# Altium integrated library TI Power Management DC-DC Controller (External Switch).IntLib: 349 symbols (part 19 of 28)
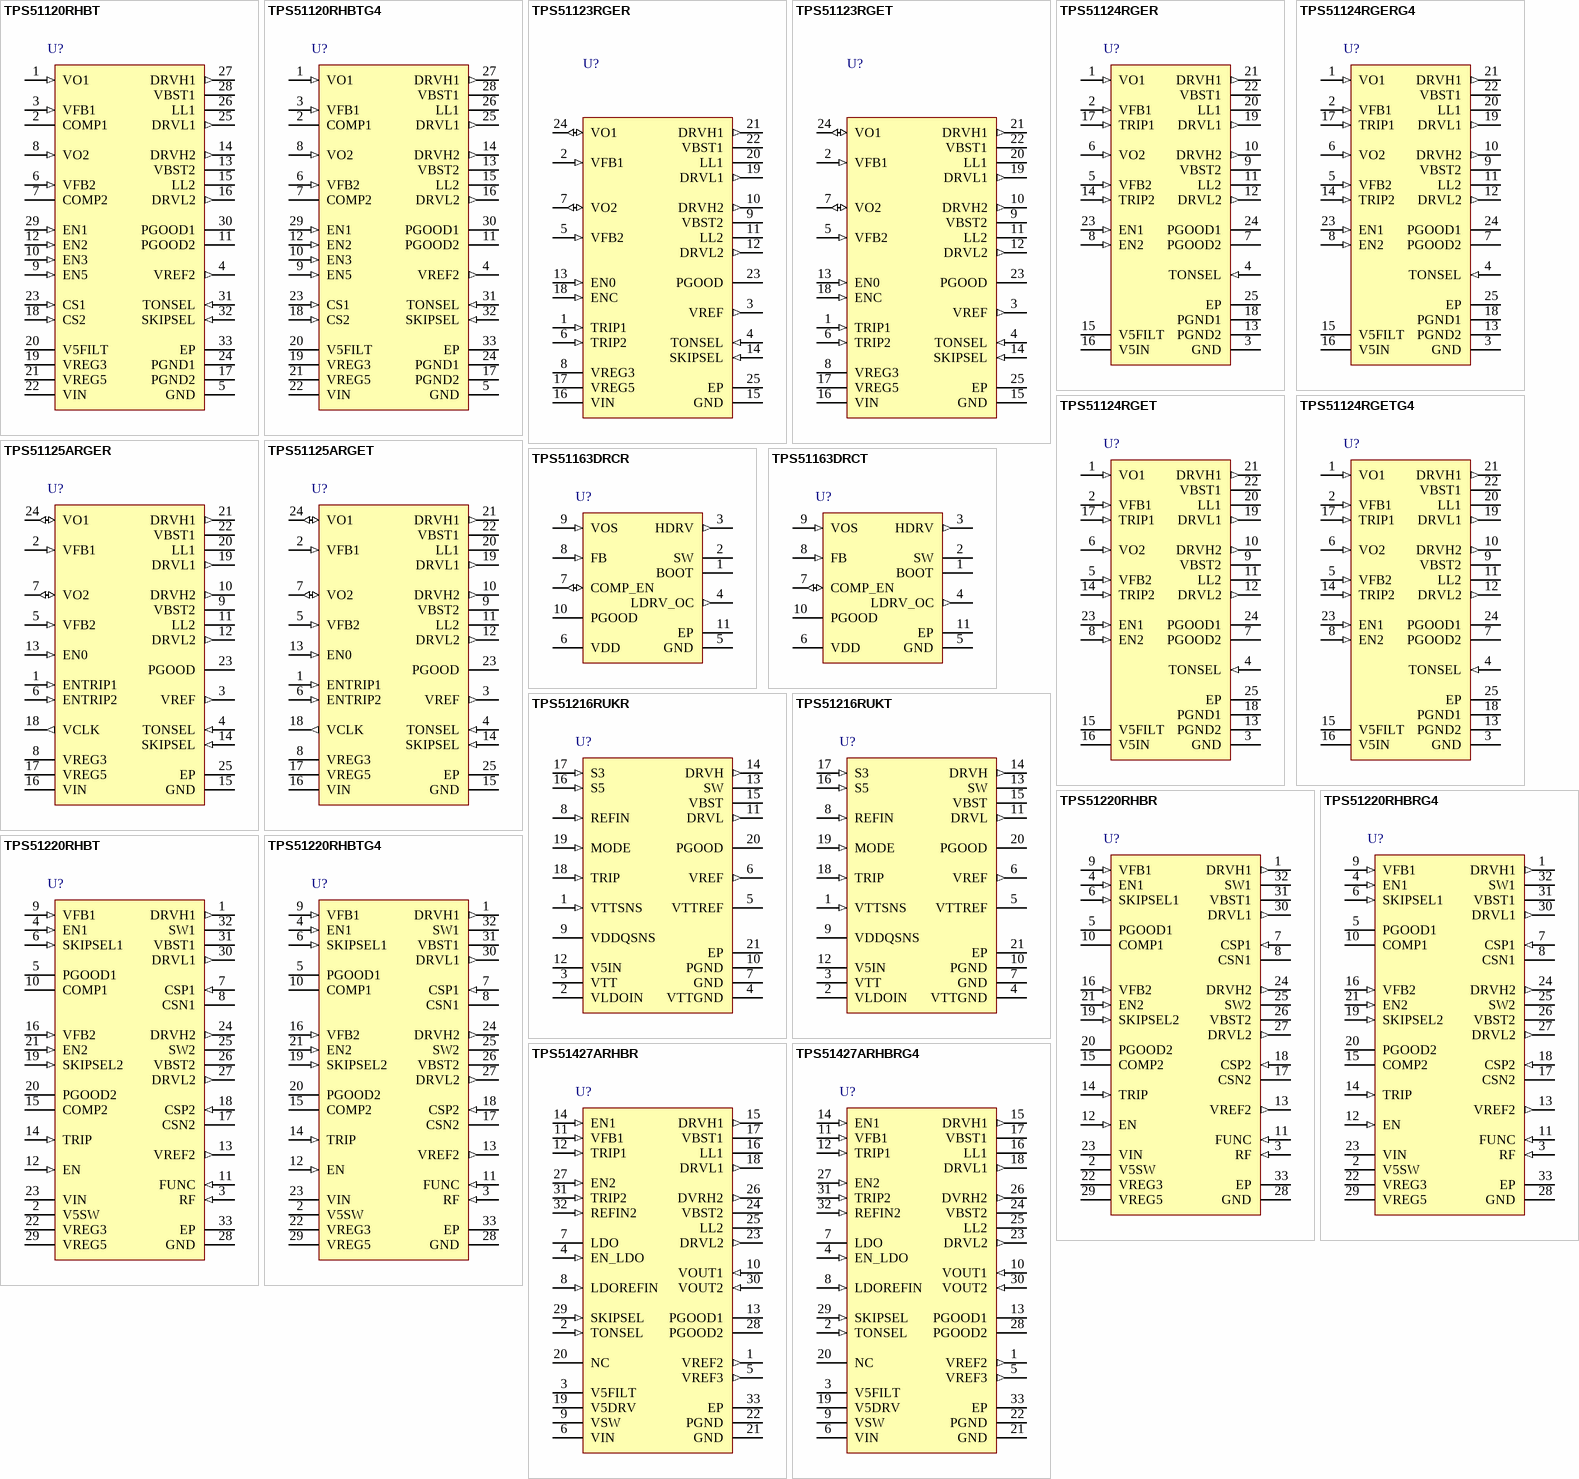
[diagram p32: symbols TPS51120RHBT to TPS51427ARHBRG4]

## TPS51120RHBTG4
designator U?
Dual Current Mode, Synch Step-Down Controller with 100 mA Standby Reg for Notebook System Power, 88 % Duty Cycle, 4.5 to 28 V, -40 to 85 degC, 32-pin QFN (RHB), Green (RoHS & no Sb/Br); Manufacturer: Texas Instruments; PartNumber: TPS51120RHBTG4; Duty Cycle(Max)(%): 88; Iout(Max)(A): 20; Regulated Outputs(#): 2; SubFamily: Multiple-Output Switching Controller; Switching Frequency(Max)(kHz): 580; Synchronous Rectification: TRUE; Topology: Buck, D-CAP Mode"; Vin(Max)(V): 28; Vin(Min)(V): 4.5; Vout(Max)(V): 5.5; Vout(Min)(V): 1.05; DatasheetVersion: SLUS670B; PackageVersion: revD, Jun-2011; PackageReference: RHB32-3450X3450TP; PackageDescription: 32-Pin Plastic Quad Flat No-Lead, 5 x 5 mm Body, 0.5 mm Pitch, 3.45 x 3.45 mm Exposed Pad; Supplier 1: Digi-Key; Supplier Part Number 1: TPS51120RHBTG4-ND; Supplier 2: Farnell; Supplier Part Number 2: 1262374; Supplier 3: Newark; Supplier Part Number 3: 95M4482; Supplier 4: Newark; Supplier Part Number 4: 58K6933; Supplier 5: Mouser; Supplier Part Number 5: 595-TPS51120RHBTG4; Eco-Plan: Green (RoHS & no Sb/Br); Iout2(A): 20; Vout2(Max)(V): 5.5; Vout2(Min)(V): 1.05; Mounting Technology: Surface Mount; Code_JEDEC: MO-220; ComponentLink1Description: Datasheet; ComponentLink1URL: http://www.ti.com/general/docs/lit/getliterature.tsp?genericPartNumber=TPS51120&fileType=pdf; ComponentLink2Description: Package Specification; ComponentLink2URL: http://www.ti.com/litv/pdf/mpqf130c
footprint RHB32-3450X3450TP (QFN, 32-Leads, Body 5x5mm, Pitch 0.5mm, Thermal Pad 3.45x3.45mm, TI Recommended)
pins: 1 VO1 (in) "These terminals serve four functions: on-time adjustment, output discharge, VREG5, VREG3 switchover input and feedback inputs for 5-V, 3.3-V fixed-output option. Connect to positive terminal of respective switch mode power (See Datasheet)", 2 COMP1 "Loop compensation pin (error amplifier output). Connect RC from this pin to GND for proper loop compensation with current mode operation. Tie this pin to V5FILT for D-CAP mode operation.", 3 VFB1 (in) "SMPS feedback input. Connect the feedback resistor divider here for adjustable outputs. Tie these pins to V5FILT or for fixed output option. Refer to Table 2", 4 VREF2 (out) "2-V reference output. Capable of +/-50-uA, +/-2% over 0 - 85degreesC temperature range. Bypass to GND by 1-nF ceramic capacitor. Tie this pin to GND disables both SMPS.", 5 GND (power) "Signal ground pin.", 6 VFB2 (in) "SMPS feedback input. Connect the feedback resistor divider here for adjustable outputs. Tie these pins to V5FILT or for fixed output option. Refer to Table 2", 7 COMP2 "Loop compensation pin (error amplifier output). Connect RC from this pin to GND for proper loop compensation with current mode operation. Tie this pin to V5FILT for D-CAP mode operation.", 8 VO2 (in) "These terminals serve four functions: on-time adjustment, output discharge, VREG5, VREG3 switchover input and feedback inputs for 5-V, 3.3-V fixed-output option. Connect to positive terminal of respective switch mode power (See Datasheet)", 9 EN5 (in) "VREG5, 5-V low dropout linear regulator enable pin. Connect to GND to disable. Float or tie to VBAT to turn on the regulator.", 10 EN3 (in) "VREG3, 3.3-V low dropout linear regulator enable pin. Connect to GND to disable. Float or tie to enabled VREG5 to turn on the regulator.", 11 PGOOD2 (oc) "Power-good window comparator open drain output. Pull up with resistor to V5FILT or appropriate signal voltage. Current capability is 5-mA. PGOOD goes high 1-ms after VFB is within specified limits. Power bad (terminal goes (See Datasheet)", 12 EN2 (in) "Channel 1 and Channel 2 SMPS enable pins. Connect to 5 V to turn on with internal 3-ms soft-start. Slower soft-start is possible by applying an external capacitor from each of these pins to ground to program ramp rate.", 13 VBST2 (power) "Supply Input for High-side MOSFET Driver. Connect capacitor from this pin to respective LL terminal. An internal PN diode is connected between VREG5 to each of these pins. User can add external schottky diode if forward drop (See Datasheet)", 14 DRVH2 (out) "High-side MOSFET gate drive output. Source 3.5 Ohm, sink 1.5 Ohm, LL-node referenced floating driver. Drive voltage corresponds to VBST to LL voltage.", 15 LL2 (power) "High-side MOSFET gate driver return. Also serve as current sense comparator input (-) for RDS(on) sensing, and input voltage monitor for on-time control circuitry", 16 DRVL2 (out) "Rectifying (low-side) MOSFET gate drive output. Source 3.5 Ohm, sink 1.5 Ohm, PGND referenced driver. Drive voltage is VREG5 voltage.", 17 PGND2 (power) "Ground return for rectifying MOSFET gate driver. Connect PGND2, PGND1 and GND strongly together near the source of the rectifying FET or the GND connection of the current sense resistor. Also serve as current sense (See Datasheet)", 18 CS2 (in) "Current sense comparator input (-) for resistor sensing scheme. Or, overcurrent trip setting input for RDS(on) current sense scheme if connected to V5FILT through the threshold setting resistor.", 19 VREG3 (power) "3.3-V, 100-uA low dropout linear regulator output. Bypass to PGND by 10-mF ceramic capacitor. Runs from VIN supply. Shuts off with EN3. Switches over to VO2 when 3.1 V or above is provided.", 20 V5FILT (power) "5-V supply input for the entire control circuit. Should be provided from VREG5 via RC filter.", 21 VREG5 (power) "5-V, 100-mA low dropout linear regulator output. Bypass to PGND by 10-uF ceramic capacitor. Runs from VIN supply. Internally connected to VBST and DRVL. Shuts off with EN5. Switches over to VO1 when 4.8 V or above is (See Datasheet)", 22 VIN (power) "Supply Input for 5-V and 3.3-V linear regulator. Typically connected to VBAT.", 23 CS1 (in) "Current sense comparator input (-) for resistor sensing scheme. Or, overcurrent trip setting input for RDS(on) current sense scheme if connected to V5FILT through the threshold setting resistor.", 24 PGND1 (power) "Ground return for rectifying MOSFET gate driver. Connect PGND2, PGND1 and GND strongly together near the source of the rectifying FET or the GND connection of the current sense resistor. Also serve as current sense (See Datasheet)", 25 DRVL1 (out) "Rectifying (low-side) MOSFET gate drive output. Source 3.5 Ohm, sink 1.5 Ohm, PGND referenced driver. Drive voltage is VREG5 voltage.", 26 LL1 (power) "High-side MOSFET gate driver return. Also serve as current sense comparator input (-) for RDS(on) sensing, and input voltage monitor for on-time control circuitry", 27 DRVH1 (out) "High-side MOSFET gate drive output. Source 3.5 Ohm, sink 1.5 Ohm, LL-node referenced floating driver. Drive voltage corresponds to VBST to LL voltage.", 28 VBST1 (power) "Supply Input for High-side MOSFET Driver. Connect capacitor from this pin to respective LL terminal. An internal PN diode is connected between VREG5 to each of these pins. User can add external schottky diode if forward drop (See Datasheet)", 29 EN1 (in) "Channel 1 and Channel 2 SMPS enable pins. Connect to 5 V to turn on with internal 3-ms soft-start. Slower soft-start is possible by applying an external capacitor from each of these pins to ground to program ramp rate.", 30 PGOOD1 (oc) "Power-good window comparator open drain output. Pull up with resistor to V5FILT or appropriate signal voltage. Current capability is 5-mA. PGOOD goes high 1-ms after VFB is within specified limits. Power bad (terminal goes (See Datasheet)", 31 TONSEL (in) "On-time selection pin. Refer to Table 1 and Table 2.", 32 SKIPSEL (in) "Skip and fault mode selection pin. Refer to Table 2", 33 EP (power) "EXPOSED THERMAL PAD"

## TPS51123RGER
designator U?
Dual-Synchronous, Step-Down Controller with Out-of-Audio Operation, 100 mA LDOs for Notebook Sys. Pwr, 93 % Duty Cycle, 5.5 to 28 V, -40 to 85 degC, 24-pin VQFN (RGE), Green (RoHS & no Sb/Br); Manufacturer: Texas Instruments; PartNumber: TPS51123RGER; Duty Cycle(Max)(%): 93; Iout(Max)(A): 20; Regulated Outputs(#): 2; SubFamily: Multiple-Output Switching Controller; Switching Frequency(Max)(kHz): 460; Synchronous Rectification: TRUE; Topology: Buck, D-CAP Mode"; Vin(Max)(V): 28; Vin(Min)(V): 5.5; DatasheetVersion: SLUS890D; PackageVersion: revG, Jul-2011; PackageReference: RGE24-2450X2450TP; PackageDescription: 24-Pin Plastic Quad Flatpack No-Lead, 4 x 4 mm Body, 0.5 mm Pitch; Supplier 1: Digi-Key; Supplier Part Number 1: TPS51123RGER-ND; Supplier 2: Mouser; Supplier Part Number 2: 595-TPS51123RGER; Eco-Plan: Green (RoHS & no Sb/Br); Iout2(A): 20; Vout(Max)(V): 5.5; Vout(Min)(V): 2; Vout2(Max)(V): 5.5; Vout2(Min)(V): 2; Mounting Technology: Surface Mount; Code_JEDEC: MO-220; ComponentLink1Description: Datasheet; ComponentLink1URL: http://www.ti.com/general/docs/lit/getliterature.tsp?genericPartNumber=TPS51123&fileType=pdf; ComponentLink2Description: Package Specification; ComponentLink2URL: http://www.ti.com/litv/pdf/mpqf124f
footprint RGE24-2450X2450TP (QFN, 24-Leads, Body 4x4mm, Pitch 0.5mm, Thermal Pad 2.45x2.45mm, TI Recommended)
pins: 1 TRIP1 (in) "OCL trip setting pins. Connect resistor from this pin to GND to set threshold for synchronous RDS(on) sense.", 2 VFB1 (in) "SMPS feedback inputs. Connect with feedback resistor divider", 3 VREF (out) "2-V reference voltage output. Connect 220-nF to 1-uF ceramic capacitor to Signal GND near the device.", 4 TONSEL (in) "On-time adjustment pin.365 kHz/460 kHz setting: connect to VREG5   300 kHz/375 kHz setting: connect to VREG3    245 kHz/305 kHz setting: connect to VREF   200 kHz/250 kHz setting: connect to GND", 5 VFB2 (in) "SMPS feedback inputs. Connect with feedback resistor divider", 6 TRIP2 (in) "OCL trip setting pins. Connect resistor from this pin to GND to set threshold for synchronous RDS(on) sense.", 7 VO2 (io) "Output connection to SMPS. These terminals work as fixed voltage inputs and output discharge inputs. VO1 and VO2 also work as 5-V and 3.3-V switch over return power input respectively.", 8 VREG3 (power) "3.3-V power supply output. Connect a 10-uF ceramic capacitor to Power GND near the device. A 1-uF ceramic capacitor is acceptable when not loaded.", 9 VBST2 (power) "Supply input for high-side N-channel MOSFET driver (boost terminal).", 10 DRVH2 (out) "High-side N-channel MOSFET driver outputs. LL referenced drivers.", 11 LL2 (power) "Switch node connections for high-side drivers, current limit and control circuitry.", 12 DRVL2 (out) "Low-side N-channel MOSFET driver outputs. GND referenced drivers.", 13 EN0 (in) "Master enable input. Open : LDOs on, and ready to turn both switcher channels.GND : disable all circuit", 14 SKIPSEL (in) "Selection pin for operation mode:OOA auto skip : Connect to VREG3 or VREG5   PWM only: Connect to VREF  Auto skip: Connect to GND", 15 GND (power) "Ground.", 16 VIN (power) "High voltage power supply input for 5-V/3.3-V LDO.", 17 VREG5 (power) "5-V power supply output. Connect a 33-uF ceramic capacitor to Power GND near the device.", 18 ENC (in) "Channel 1 and Channel 2 enable input. Pull up to the voltage ranging 3.3-V to 5-V to turn on both switcher channels. Short to ground to shutdown them.", 19 DRVL1 (out) "Low-side N-channel MOSFET driver outputs. GND referenced drivers.", 20 LL1 (power) "Switch node connections for high-side drivers, current limit and control circuitry.", 21 DRVH1 (out) "High-side N-channel MOSFET driver outputs. LL referenced drivers.", 22 VBST1 (power) "Supply input for high-side N-channel MOSFET driver (boost terminal).", 23 PGOOD (oc) "Powergood window comparator output for channel 1 and 2. (Logical AND)", 24 VO1 (io) "Output connection to SMPS. These terminals work as fixed voltage inputs and output discharge inputs. VO1 and VO2 also work as 5-V and 3.3-V switch over return power input respectively.", 25 EP (power) "Exposed Thermal Pad"

## TPS51123RGET
designator U?
Dual-Synchronous, Step-Down Controller with Out-of-Audio Operation, 100 mA LDOs for Notebook Sys. Pwr, 93 % Duty Cycle, 5.5 to 28 V, -40 to 85 degC, 24-pin VQFN (RGE), Green (RoHS & no Sb/Br); Manufacturer: Texas Instruments; PartNumber: TPS51123RGET; Duty Cycle(Max)(%): 93; Iout(Max)(A): 20; Regulated Outputs(#): 2; SubFamily: Multiple-Output Switching Controller; Switching Frequency(Max)(kHz): 460; Synchronous Rectification: TRUE; Topology: Buck, D-CAP Mode"; Vin(Max)(V): 28; Vin(Min)(V): 5.5; DatasheetVersion: SLUS890D; PackageVersion: revG, Jul-2011; PackageReference: RGE24-2450X2450TP; PackageDescription: 24-Pin Plastic Quad Flatpack No-Lead, 4 x 4 mm Body, 0.5 mm Pitch; Supplier 1: Digi-Key; Supplier Part Number 1: 296-24069-2-ND; Supplier 2: Digi-Key; Supplier Part Number 2: 296-24069-1-ND; Supplier 3: Digi-Key; Supplier Part Number 3: 296-24069-6-ND; Supplier 4: Farnell; Supplier Part Number 4: 1710816; Supplier 5: Newark; Supplier Part Number 5: 46P3777; Supplier 6: Mouser; Supplier Part Number 6: 595-TPS51123RGET; Eco-Plan: Green (RoHS & no Sb/Br); Iout2(A): 20; Vout(Max)(V): 5.5; Vout(Min)(V): 2; Vout2(Max)(V): 5.5; Vout2(Min)(V): 2; Mounting Technology: Surface Mount; Code_JEDEC: MO-220; ComponentLink1Description: Datasheet; ComponentLink1URL: http://www.ti.com/general/docs/lit/getliterature.tsp?genericPartNumber=TPS51123&fileType=pdf; ComponentLink2Description: Package Specification; ComponentLink2URL: http://www.ti.com/litv/pdf/mpqf124f
footprint RGE24-2450X2450TP (QFN, 24-Leads, Body 4x4mm, Pitch 0.5mm, Thermal Pad 2.45x2.45mm, TI Recommended)
pins: 1 TRIP1 (in) "OCL trip setting pins. Connect resistor from this pin to GND to set threshold for synchronous RDS(on) sense.", 2 VFB1 (in) "SMPS feedback inputs. Connect with feedback resistor divider", 3 VREF (out) "2-V reference voltage output. Connect 220-nF to 1-uF ceramic capacitor to Signal GND near the device.", 4 TONSEL (in) "On-time adjustment pin.365 kHz/460 kHz setting: connect to VREG5   300 kHz/375 kHz setting: connect to VREG3    245 kHz/305 kHz setting: connect to VREF   200 kHz/250 kHz setting: connect to GND", 5 VFB2 (in) "SMPS feedback inputs. Connect with feedback resistor divider", 6 TRIP2 (in) "OCL trip setting pins. Connect resistor from this pin to GND to set threshold for synchronous RDS(on) sense.", 7 VO2 (io) "Output connection to SMPS. These terminals work as fixed voltage inputs and output discharge inputs. VO1 and VO2 also work as 5-V and 3.3-V switch over return power input respectively.", 8 VREG3 (power) "3.3-V power supply output. Connect a 10-uF ceramic capacitor to Power GND near the device. A 1-uF ceramic capacitor is acceptable when not loaded.", 9 VBST2 (power) "Supply input for high-side N-channel MOSFET driver (boost terminal).", 10 DRVH2 (out) "High-side N-channel MOSFET driver outputs. LL referenced drivers.", 11 LL2 (power) "Switch node connections for high-side drivers, current limit and control circuitry.", 12 DRVL2 (out) "Low-side N-channel MOSFET driver outputs. GND referenced drivers.", 13 EN0 (in) "Master enable input. Open : LDOs on, and ready to turn both switcher channels.GND : disable all circuit", 14 SKIPSEL (in) "Selection pin for operation mode:OOA auto skip : Connect to VREG3 or VREG5   PWM only: Connect to VREF  Auto skip: Connect to GND", 15 GND (power) "Ground.", 16 VIN (power) "High voltage power supply input for 5-V/3.3-V LDO.", 17 VREG5 (power) "5-V power supply output. Connect a 33-uF ceramic capacitor to Power GND near the device.", 18 ENC (in) "Channel 1 and Channel 2 enable input. Pull up to the voltage ranging 3.3-V to 5-V to turn on both switcher channels. Short to ground to shutdown them.", 19 DRVL1 (out) "Low-side N-channel MOSFET driver outputs. GND referenced drivers.", 20 LL1 (power) "Switch node connections for high-side drivers, current limit and control circuitry.", 21 DRVH1 (out) "High-side N-channel MOSFET driver outputs. LL referenced drivers.", 22 VBST1 (power) "Supply input for high-side N-channel MOSFET driver (boost terminal).", 23 PGOOD (oc) "Powergood window comparator output for channel 1 and 2. (Logical AND)", 24 VO1 (io) "Output connection to SMPS. These terminals work as fixed voltage inputs and output discharge inputs. VO1 and VO2 also work as 5-V and 3.3-V switch over return power input respectively.", 25 EP (power) "Exposed Thermal Pad"

## TPS51124RGER
designator U?
Dual, Synchronous Step Down Controller for Low Voltage System Power, 88 % Duty Cycle, 3 to 28 V, -40 to 85 degC, 24-pin VQFN (RGE), Green (RoHS & no Sb/Br); Manufacturer: Texas Instruments; PartNumber: TPS51124RGER; Duty Cycle(Max)(%): 88; Iout(Max)(A): 15; Iout2(A): 20; Regulated Outputs(#): 2; SubFamily: Multiple-Output Switching Controller; Switching Frequency(Max)(kHz): 420; Synchronous Rectification: TRUE; Topology: Buck, D-CAP Mode"; Vin(Max)(V): 28; Vin(Min)(V): 3; Vout(Max)(V): 5.5; Vout(Min)(V): 0.76; DatasheetVersion: SLVS616B; PackageVersion: revG, Jul-2011; PackageReference: RGE24-2450X2450TP; PackageDescription: 24-Pin Plastic Quad Flatpack No-Lead, 4 x 4 mm Body, 0.5 mm Pitch; Supplier 1: Digi-Key; Supplier Part Number 1: 296-26976-2-ND; Supplier 2: Digi-Key; Supplier Part Number 2: 296-26976-1-ND; Supplier 3: Digi-Key; Supplier Part Number 3: 296-26976-6-ND; Supplier 4: Newark; Supplier Part Number 4: 70K5731; Supplier 5: Mouser; Supplier Part Number 5: 595-TPS51124RGER; Eco-Plan: Green (RoHS & no Sb/Br); Vout2(Max)(V): 5.5; Vout2(Min)(V): 0.76; Mounting Technology: Surface Mount; Code_JEDEC: MO-220; ComponentLink1Description: Datasheet; ComponentLink1URL: http://www.ti.com/general/docs/lit/getliterature.tsp?genericPartNumber=TPS51124&fileType=pdf; ComponentLink2Description: Package Specification; ComponentLink2URL: http://www.ti.com/litv/pdf/mpqf124f
footprint RGE24-2450X2450TP (QFN, 24-Leads, Body 4x4mm, Pitch 0.5mm, Thermal Pad 2.45x2.45mm, TI Recommended)
pins: 1 VO1 (in) "Output connections to SMPS. This terminal serve two functions: On-time adjustment and output discharge.", 2 VFB1 (in) "SMPS voltage feedback input. Connect with feedback resistor divider.", 3 GND (power) "Signal ground pin", 4 TONSEL (in) "On-time selection pin.", 5 VFB2 (in) "SMPS voltage feedback input. Connect with feedback resistor divider.", 6 VO2 (in) "Output connections to SMPS. This terminal serve two functions: On-time adjustment and output  discharge.", 7 PGOOD2 (oc) "Power Good window comparator open drain output for channel 2. Pull up with a resistor to 5 V, or appropriate signal voltage. Current capability is 5 mA. PGOOD goes high 0.5 ms after VFB comes within specified limits. Power (See Datasheet)", 8 EN2 (in) "Channel 2 enable pin. Connect to 5 V or 3.3 V to turn on SMPS", 9 VBST2 (power) "Supply input for synchronous high-side MOSFET driver (Boost Terminal). Connect capacitor from this pin to respective LL terminals. An internal PN diode is connected between V5IN to each of these pins. User can add external (See Datasheet)", 10 DRVH2 (out) "Synchronous high-side MOSFET driver output. LL node referenced floating drivers. The gate drive voltage is defined by the voltage across VBST to LL node flying capacitor.", 11 LL2 (power) "Switch node connections for high-side drivers return. Also serve as input to current comparators and input voltage monitor for on-time control circuitry.", 12 DRVL2 (out) "Synchronous low-side MOSFET driver output. PGND referenced drivers. The gate drive voltage is defined by V5IN voltage.", 13 PGND2 (power) "Ground returns for DRVL1 and DRVL2. Also serve as input of current comparators. Connect PGND1, PGND2, and GND strongly together near the IC. Output discharge current flows through this pin, also.", 14 TRIP2 (in) "Over-current trip point set input. Connect resistor from this pin to GND to set threshold for synchronous low-side RDS(on) sense. Voltage across this pin and GND is compared to voltage across PGND and LL at over-current (See Datasheet)", 15 V5FILT (power) "5-V power supply input for the entire control circuit except the MOSFET drivers. Connect RC low-pass filter from V5IN to V5FILT.", 16 V5IN (power) "5-V power supply input for FET gate drivers. Internally connected to VBSTx by PN diodes.", 17 TRIP1 (in) "Over-current trip point set input. Connect resistor from this pin to GND to set threshold for synchronous low-side RDS(on) sense. Voltage across this pin and GND is compared to voltage across PGND and LL at over-current (See Datasheet)", 18 PGND1 (power) "Ground returns for DRVL1 and DRVL2. Also serve as input of current comparators. Connect PGND1, PGND2, and GND strongly together near the IC. Output discharge current flows through this pin, also.", 19 DRVL1 (out) "Synchronous low-side MOSFET driver output. PGND referenced drivers. The gate drive voltage is defined by V5IN voltage.", 20 LL1 (power) "Switch node connections for high-side drivers return. Also serve as input to current comparators and input voltage monitor for on-time control circuitry.", 21 DRVH1 (out) "Synchronous high-side MOSFET driver output. LL node referenced floating drivers. The gate drive voltage is defined by the voltage across VBST to LL node flying capacitor.", 22 VBST1 (power) "Supply input for synchronous high-side MOSFET driver (Boost Terminal). Connect capacitor from this pin to respective LL terminals. An internal PN diode is connected between V5IN to each of these pins. User can add external (See Datasheet)", 23 EN1 (in) "Channel 1 enable pin. Connect to 5 V or 3.3 V to turn on SMPS", 24 PGOOD1 (oc) "Power Good window comparator open drain output for channel 1. Pull up with a resistor to 5 V, or appropriate signal voltage. Current capability is 5 mA. PGOOD goes high 0.5 ms after VFB comes within specified limits. Power (See Datasheet)", 25 EP "Exposed Thermal Pad."

## TPS51124RGERG4
designator U?
Dual, Synchronous Step Down Controller for Low Voltage System Power, 88 % Duty Cycle, 3 to 28 V, -40 to 85 degC, 24-pin VQFN (RGE), Green (RoHS & no Sb/Br); Manufacturer: Texas Instruments; PartNumber: TPS51124RGERG4; Duty Cycle(Max)(%): 88; Iout(Max)(A): 15; Iout2(A): 20; Regulated Outputs(#): 2; SubFamily: Multiple-Output Switching Controller; Switching Frequency(Max)(kHz): 420; Synchronous Rectification: TRUE; Topology: Buck, D-CAP Mode"; Vin(Max)(V): 28; Vin(Min)(V): 3; Vout(Max)(V): 5.5; Vout(Min)(V): 0.76; DatasheetVersion: SLVS616B; PackageVersion: revG, Jul-2011; PackageReference: RGE24-2450X2450TP; PackageDescription: 24-Pin Plastic Quad Flatpack No-Lead, 4 x 4 mm Body, 0.5 mm Pitch; Supplier 1: Digi-Key; Supplier Part Number 1: TPS51124RGERG4-ND; Supplier 2: Newark; Supplier Part Number 2: 73K9598; Supplier 3: Mouser; Supplier Part Number 3: 595-TPS51124RGERG4; Eco-Plan: Green (RoHS & no Sb/Br); Vout2(Max)(V): 5.5; Vout2(Min)(V): 0.76; Mounting Technology: Surface Mount; Code_JEDEC: MO-220; ComponentLink1Description: Datasheet; ComponentLink1URL: http://www.ti.com/general/docs/lit/getliterature.tsp?genericPartNumber=TPS51124&fileType=pdf; ComponentLink2Description: Package Specification; ComponentLink2URL: http://www.ti.com/litv/pdf/mpqf124f
footprint RGE24-2450X2450TP (QFN, 24-Leads, Body 4x4mm, Pitch 0.5mm, Thermal Pad 2.45x2.45mm, TI Recommended)
pins: 1 VO1 (in) "Output connections to SMPS. This terminal serve two functions: On-time adjustment and output discharge.", 2 VFB1 (in) "SMPS voltage feedback input. Connect with feedback resistor divider.", 3 GND (power) "Signal ground pin", 4 TONSEL (in) "On-time selection pin.", 5 VFB2 (in) "SMPS voltage feedback input. Connect with feedback resistor divider.", 6 VO2 (in) "Output connections to SMPS. This terminal serve two functions: On-time adjustment and output  discharge.", 7 PGOOD2 (oc) "Power Good window comparator open drain output for channel 2. Pull up with a resistor to 5 V, or appropriate signal voltage. Current capability is 5 mA. PGOOD goes high 0.5 ms after VFB comes within specified limits. Power (See Datasheet)", 8 EN2 (in) "Channel 2 enable pin. Connect to 5 V or 3.3 V to turn on SMPS", 9 VBST2 (power) "Supply input for synchronous high-side MOSFET driver (Boost Terminal). Connect capacitor from this pin to respective LL terminals. An internal PN diode is connected between V5IN to each of these pins. User can add external (See Datasheet)", 10 DRVH2 (out) "Synchronous high-side MOSFET driver output. LL node referenced floating drivers. The gate drive voltage is defined by the voltage across VBST to LL node flying capacitor.", 11 LL2 (power) "Switch node connections for high-side drivers return. Also serve as input to current comparators and input voltage monitor for on-time control circuitry.", 12 DRVL2 (out) "Synchronous low-side MOSFET driver output. PGND referenced drivers. The gate drive voltage is defined by V5IN voltage.", 13 PGND2 (power) "Ground returns for DRVL1 and DRVL2. Also serve as input of current comparators. Connect PGND1, PGND2, and GND strongly together near the IC. Output discharge current flows through this pin, also.", 14 TRIP2 (in) "Over-current trip point set input. Connect resistor from this pin to GND to set threshold for synchronous low-side RDS(on) sense. Voltage across this pin and GND is compared to voltage across PGND and LL at over-current (See Datasheet)", 15 V5FILT (power) "5-V power supply input for the entire control circuit except the MOSFET drivers. Connect RC low-pass filter from V5IN to V5FILT.", 16 V5IN (power) "5-V power supply input for FET gate drivers. Internally connected to VBSTx by PN diodes.", 17 TRIP1 (in) "Over-current trip point set input. Connect resistor from this pin to GND to set threshold for synchronous low-side RDS(on) sense. Voltage across this pin and GND is compared to voltage across PGND and LL at over-current (See Datasheet)", 18 PGND1 (power) "Ground returns for DRVL1 and DRVL2. Also serve as input of current comparators. Connect PGND1, PGND2, and GND strongly together near the IC. Output discharge current flows through this pin, also.", 19 DRVL1 (out) "Synchronous low-side MOSFET driver output. PGND referenced drivers. The gate drive voltage is defined by V5IN voltage.", 20 LL1 (power) "Switch node connections for high-side drivers return. Also serve as input to current comparators and input voltage monitor for on-time control circuitry.", 21 DRVH1 (out) "Synchronous high-side MOSFET driver output. LL node referenced floating drivers. The gate drive voltage is defined by the voltage across VBST to LL node flying capacitor.", 22 VBST1 (power) "Supply input for synchronous high-side MOSFET driver (Boost Terminal). Connect capacitor from this pin to respective LL terminals. An internal PN diode is connected between V5IN to each of these pins. User can add external (See Datasheet)", 23 EN1 (in) "Channel 1 enable pin. Connect to 5 V or 3.3 V to turn on SMPS", 24 PGOOD1 (oc) "Power Good window comparator open drain output for channel 1. Pull up with a resistor to 5 V, or appropriate signal voltage. Current capability is 5 mA. PGOOD goes high 0.5 ms after VFB comes within specified limits. Power (See Datasheet)", 25 EP "Exposed Thermal Pad."

## TPS51124RGET
designator U?
Dual, Synchronous Step Down Controller for Low Voltage System Power, 88 % Duty Cycle, 3 to 28 V, -40 to 85 degC, 24-pin VQFN (RGE), Green (RoHS & no Sb/Br); Manufacturer: Texas Instruments; PartNumber: TPS51124RGET; Duty Cycle(Max)(%): 88; Iout(Max)(A): 15; Iout2(A): 20; Regulated Outputs(#): 2; SubFamily: Multiple-Output Switching Controller; Switching Frequency(Max)(kHz): 420; Synchronous Rectification: TRUE; Topology: Buck, D-CAP Mode"; Vin(Max)(V): 28; Vin(Min)(V): 3; Vout(Max)(V): 5.5; Vout(Min)(V): 0.76; DatasheetVersion: SLVS616B; PackageVersion: revG, Jul-2011; PackageReference: RGE24-2450X2450TP; PackageDescription: 24-Pin Plastic Quad Flatpack No-Lead, 4 x 4 mm Body, 0.5 mm Pitch; Supplier 1: Digi-Key; Supplier Part Number 1: 296-19295-2-ND; Supplier 2: Digi-Key; Supplier Part Number 2: 296-19295-1-ND; Supplier 3: Digi-Key; Supplier Part Number 3: 296-19295-6-ND; Supplier 4: Farnell; Supplier Part Number 4: 1471233; Supplier 5: Newark; Supplier Part Number 5: 70K5732; Supplier 6: Mouser; Supplier Part Number 6: 595-TPS51124RGET; Eco-Plan: Green (RoHS & no Sb/Br); Vout2(Max)(V): 5.5; Vout2(Min)(V): 0.76; Mounting Technology: Surface Mount; Code_JEDEC: MO-220; ComponentLink1Description: Datasheet; ComponentLink1URL: http://www.ti.com/general/docs/lit/getliterature.tsp?genericPartNumber=TPS51124&fileType=pdf; ComponentLink2Description: Package Specification; ComponentLink2URL: http://www.ti.com/litv/pdf/mpqf124f
footprint RGE24-2450X2450TP (QFN, 24-Leads, Body 4x4mm, Pitch 0.5mm, Thermal Pad 2.45x2.45mm, TI Recommended)
pins: 1 VO1 (in) "Output connections to SMPS. This terminal serve two functions: On-time adjustment and output discharge.", 2 VFB1 (in) "SMPS voltage feedback input. Connect with feedback resistor divider.", 3 GND (power) "Signal ground pin", 4 TONSEL (in) "On-time selection pin.", 5 VFB2 (in) "SMPS voltage feedback input. Connect with feedback resistor divider.", 6 VO2 (in) "Output connections to SMPS. This terminal serve two functions: On-time adjustment and output  discharge.", 7 PGOOD2 (oc) "Power Good window comparator open drain output for channel 2. Pull up with a resistor to 5 V, or appropriate signal voltage. Current capability is 5 mA. PGOOD goes high 0.5 ms after VFB comes within specified limits. Power (See Datasheet)", 8 EN2 (in) "Channel 2 enable pin. Connect to 5 V or 3.3 V to turn on SMPS", 9 VBST2 (power) "Supply input for synchronous high-side MOSFET driver (Boost Terminal). Connect capacitor from this pin to respective LL terminals. An internal PN diode is connected between V5IN to each of these pins. User can add external (See Datasheet)", 10 DRVH2 (out) "Synchronous high-side MOSFET driver output. LL node referenced floating drivers. The gate drive voltage is defined by the voltage across VBST to LL node flying capacitor.", 11 LL2 (power) "Switch node connections for high-side drivers return. Also serve as input to current comparators and input voltage monitor for on-time control circuitry.", 12 DRVL2 (out) "Synchronous low-side MOSFET driver output. PGND referenced drivers. The gate drive voltage is defined by V5IN voltage.", 13 PGND2 (power) "Ground returns for DRVL1 and DRVL2. Also serve as input of current comparators. Connect PGND1, PGND2, and GND strongly together near the IC. Output discharge current flows through this pin, also.", 14 TRIP2 (in) "Over-current trip point set input. Connect resistor from this pin to GND to set threshold for synchronous low-side RDS(on) sense. Voltage across this pin and GND is compared to voltage across PGND and LL at over-current (See Datasheet)", 15 V5FILT (power) "5-V power supply input for the entire control circuit except the MOSFET drivers. Connect RC low-pass filter from V5IN to V5FILT.", 16 V5IN (power) "5-V power supply input for FET gate drivers. Internally connected to VBSTx by PN diodes.", 17 TRIP1 (in) "Over-current trip point set input. Connect resistor from this pin to GND to set threshold for synchronous low-side RDS(on) sense. Voltage across this pin and GND is compared to voltage across PGND and LL at over-current (See Datasheet)", 18 PGND1 (power) "Ground returns for DRVL1 and DRVL2. Also serve as input of current comparators. Connect PGND1, PGND2, and GND strongly together near the IC. Output discharge current flows through this pin, also.", 19 DRVL1 (out) "Synchronous low-side MOSFET driver output. PGND referenced drivers. The gate drive voltage is defined by V5IN voltage.", 20 LL1 (power) "Switch node connections for high-side drivers return. Also serve as input to current comparators and input voltage monitor for on-time control circuitry.", 21 DRVH1 (out) "Synchronous high-side MOSFET driver output. LL node referenced floating drivers. The gate drive voltage is defined by the voltage across VBST to LL node flying capacitor.", 22 VBST1 (power) "Supply input for synchronous high-side MOSFET driver (Boost Terminal). Connect capacitor from this pin to respective LL terminals. An internal PN diode is connected between V5IN to each of these pins. User can add external (See Datasheet)", 23 EN1 (in) "Channel 1 enable pin. Connect to 5 V or 3.3 V to turn on SMPS", 24 PGOOD1 (oc) "Power Good window comparator open drain output for channel 1. Pull up with a resistor to 5 V, or appropriate signal voltage. Current capability is 5 mA. PGOOD goes high 0.5 ms after VFB comes within specified limits. Power (See Datasheet)", 25 EP "Exposed Thermal Pad."

## TPS51124RGETG4
designator U?
Dual, Synchronous Step Down Controller for Low Voltage System Power, 88 % Duty Cycle, 3 to 28 V, -40 to 85 degC, 24-pin VQFN (RGE), Green (RoHS & no Sb/Br); Manufacturer: Texas Instruments; PartNumber: TPS51124RGETG4; Duty Cycle(Max)(%): 88; Iout(Max)(A): 15; Iout2(A): 20; Regulated Outputs(#): 2; SubFamily: Multiple-Output Switching Controller; Switching Frequency(Max)(kHz): 420; Synchronous Rectification: TRUE; Topology: Buck, D-CAP Mode"; Vin(Max)(V): 28; Vin(Min)(V): 3; Vout(Max)(V): 5.5; Vout(Min)(V): 0.76; DatasheetVersion: SLVS616B; PackageVersion: revG, Jul-2011; PackageReference: RGE24-2450X2450TP; PackageDescription: 24-Pin Plastic Quad Flatpack No-Lead, 4 x 4 mm Body, 0.5 mm Pitch; Supplier 1: Digi-Key; Supplier Part Number 1: TPS51124RGETG4-ND; Supplier 2: Farnell; Supplier Part Number 2: 1262372; Supplier 3: Newark; Supplier Part Number 3: 73K9599; Supplier 4: Mouser; Supplier Part Number 4: 595-TPS51124RGETG4; Eco-Plan: Green (RoHS & no Sb/Br); Vout2(Max)(V): 5.5; Vout2(Min)(V): 0.76; Mounting Technology: Surface Mount; Code_JEDEC: MO-220; ComponentLink1Description: Datasheet; ComponentLink1URL: http://www.ti.com/general/docs/lit/getliterature.tsp?genericPartNumber=TPS51124&fileType=pdf; ComponentLink2Description: Package Specification; ComponentLink2URL: http://www.ti.com/litv/pdf/mpqf124f
footprint RGE24-2450X2450TP (QFN, 24-Leads, Body 4x4mm, Pitch 0.5mm, Thermal Pad 2.45x2.45mm, TI Recommended)
pins: 1 VO1 (in) "Output connections to SMPS. This terminal serve two functions: On-time adjustment and output discharge.", 2 VFB1 (in) "SMPS voltage feedback input. Connect with feedback resistor divider.", 3 GND (power) "Signal ground pin", 4 TONSEL (in) "On-time selection pin.", 5 VFB2 (in) "SMPS voltage feedback input. Connect with feedback resistor divider.", 6 VO2 (in) "Output connections to SMPS. This terminal serve two functions: On-time adjustment and output  discharge.", 7 PGOOD2 (oc) "Power Good window comparator open drain output for channel 2. Pull up with a resistor to 5 V, or appropriate signal voltage. Current capability is 5 mA. PGOOD goes high 0.5 ms after VFB comes within specified limits. Power (See Datasheet)", 8 EN2 (in) "Channel 2 enable pin. Connect to 5 V or 3.3 V to turn on SMPS", 9 VBST2 (power) "Supply input for synchronous high-side MOSFET driver (Boost Terminal). Connect capacitor from this pin to respective LL terminals. An internal PN diode is connected between V5IN to each of these pins. User can add external (See Datasheet)", 10 DRVH2 (out) "Synchronous high-side MOSFET driver output. LL node referenced floating drivers. The gate drive voltage is defined by the voltage across VBST to LL node flying capacitor.", 11 LL2 (power) "Switch node connections for high-side drivers return. Also serve as input to current comparators and input voltage monitor for on-time control circuitry.", 12 DRVL2 (out) "Synchronous low-side MOSFET driver output. PGND referenced drivers. The gate drive voltage is defined by V5IN voltage.", 13 PGND2 (power) "Ground returns for DRVL1 and DRVL2. Also serve as input of current comparators. Connect PGND1, PGND2, and GND strongly together near the IC. Output discharge current flows through this pin, also.", 14 TRIP2 (in) "Over-current trip point set input. Connect resistor from this pin to GND to set threshold for synchronous low-side RDS(on) sense. Voltage across this pin and GND is compared to voltage across PGND and LL at over-current (See Datasheet)", 15 V5FILT (power) "5-V power supply input for the entire control circuit except the MOSFET drivers. Connect RC low-pass filter from V5IN to V5FILT.", 16 V5IN (power) "5-V power supply input for FET gate drivers. Internally connected to VBSTx by PN diodes.", 17 TRIP1 (in) "Over-current trip point set input. Connect resistor from this pin to GND to set threshold for synchronous low-side RDS(on) sense. Voltage across this pin and GND is compared to voltage across PGND and LL at over-current (See Datasheet)", 18 PGND1 (power) "Ground returns for DRVL1 and DRVL2. Also serve as input of current comparators. Connect PGND1, PGND2, and GND strongly together near the IC. Output discharge current flows through this pin, also.", 19 DRVL1 (out) "Synchronous low-side MOSFET driver output. PGND referenced drivers. The gate drive voltage is defined by V5IN voltage.", 20 LL1 (power) "Switch node connections for high-side drivers return. Also serve as input to current comparators and input voltage monitor for on-time control circuitry.", 21 DRVH1 (out) "Synchronous high-side MOSFET driver output. LL node referenced floating drivers. The gate drive voltage is defined by the voltage across VBST to LL node flying capacitor.", 22 VBST1 (power) "Supply input for synchronous high-side MOSFET driver (Boost Terminal). Connect capacitor from this pin to respective LL terminals. An internal PN diode is connected between V5IN to each of these pins. User can add external (See Datasheet)", 23 EN1 (in) "Channel 1 enable pin. Connect to 5 V or 3.3 V to turn on SMPS", 24 PGOOD1 (oc) "Power Good window comparator open drain output for channel 1. Pull up with a resistor to 5 V, or appropriate signal voltage. Current capability is 5 mA. PGOOD goes high 0.5 ms after VFB comes within specified limits. Power (See Datasheet)", 25 EP "Exposed Thermal Pad."

## TPS51125ARGER
designator U?
Dual-Synchronous, Step-Down Controller with Out-of-Audio Operation and 100-mA LDOs, 93 % Duty Cycle, 5.5 to 28 V, -40 to 85 degC, 24-pin VQFN (RGE), Green (RoHS & no Sb/Br); Manufacturer: Texas Instruments; PartNumber: TPS51125ARGER; Duty Cycle(Max)(%): 93; Iout(Max)(A): 20; Regulated Outputs(#): 2; SubFamily: Multiple-Output Switching Controller; Switching Frequency(Max)(kHz): 460; Synchronous Rectification: TRUE; Topology: Buck, D-CAP Mode"; Vin(Max)(V): 28; Vin(Min)(V): 5.5; DatasheetVersion: SLUS976F; PackageVersion: revG, Jul-2011; PackageReference: RGE24-2450X2450TP; PackageDescription: 24-Pin Plastic Quad Flatpack No-Lead, 4 x 4 mm Body, 0.5 mm Pitch; Supplier 1: Digi-Key; Supplier Part Number 1: 296-25557-2-ND; Supplier 2: Digi-Key; Supplier Part Number 2: 296-25557-1-ND; Supplier 3: Digi-Key; Supplier Part Number 3: 296-25557-6-ND; Supplier 4: Newark; Supplier Part Number 4: 64R0747; Supplier 5: Mouser; Supplier Part Number 5: 595-TPS51125ARGER; Eco-Plan: Green (RoHS & no Sb/Br); Iout2(A): 20; Vout(Max)(V): 5.5; Vout(Min)(V): 2; Vout2(Max)(V): 5.5; Vout2(Min)(V): 2; Mounting Technology: Surface Mount; Code_JEDEC: MO-220; ComponentLink1Description: Datasheet; ComponentLink1URL: http://www.ti.com/general/docs/lit/getliterature.tsp?genericPartNumber=TPS51125A&fileType=pdf; ComponentLink2Description: Package Specification; ComponentLink2URL: http://www.ti.com/litv/pdf/mpqf124f
footprint RGE24-2450X2450TP (QFN, 24-Leads, Body 4x4mm, Pitch 0.5mm, Thermal Pad 2.45x2.45mm, TI Recommended)
pins: 1 ENTRIP1 (in) "Channel 1 and Channel 2 enable and OCL trip setting pins.Connect resistor from this pin to GND to set threshold for synchronous RDS(on) sense. Short to ground to shutdown a switcher channel.", 2 VFB1 (in) "SMPS feedback inputs. Connect with feedback resistor divider.", 3 VREF (out) "2-V reference voltage output. Connect 220-nF to 1-uF, high-quality X5R or X7R ceramic capacitor to Signal GND near the device.", 4 TONSEL (in) "On-time adjustment pin.365 kHz/460 kHz setting : connect to VREG5 300 kHz/375 kHz setting : connect to VREG3 245 kHz/305 kHz setting : connect to VREF 200 kHz/250 kHz setting : connect to GND", 5 VFB2 (in) "SMPS feedback inputs. Connect with feedback resistor divider.", 6 ENTRIP2 (in) "Channel 1 and Channel 2 enable and OCL trip setting pins.Connect resistor from this pin to GND to set threshold for synchronous RDS(on) sense. Short to ground to shutdown a switcher channel.", 7 VO2 (io) "Output connection to SMPS. These terminals work as fixed voltage inputs and output discharge inputs. VO1 and VO2 also work as 5 V and 3.3 V switch over return power input respectively.", 8 VREG3 (power) "3.3-V power supply output. Connect 10-uF or larger, high-quality X5R or X7R ceramic capacitor", 9 VBST2 (power) "Supply input for high-side N-channel MOSFET driver (boost terminal).", 10 DRVH2 (out) "High-side N-channel MOSFET driver outputs. LL referenced drivers.", 11 LL2 (power) "Switch node connections for high-side drivers, current limit and control circuitry.", 12 DRVL2 (out) "Low-side N-channel MOSFET driver outputs. GND referenced drivers.", 13 EN0 (in) "Master enable input. Open : LDOs on, and ready to turn on VCLK and switcher channels. 620 k ohm to GND : enable both LDOs, VCLK off and ready to turn on switcher channels. Power consumption is almost the same as the case of (See Datasheet)", 14 SKIPSEL (in) "Selection pin for operation mode:  ; OOA auto skip : Connect to VREG3 or VREG5 ; Auto skip : Connect to VREF ;  PWM only : Connect to GND ;", 15 GND (power) "Ground.", 16 VIN (power) "High voltage power supply input for 5-V/3.3-V LDO.", 17 VREG5 (power) "5-V power supply output. Connect 10-uF or larger, high-quality X5R or X7R ceramic capacitor to Power GND near the device.", 18 VCLK (out) "270-kHz clock output for 15-V charge pump.", 19 DRVL1 (out) "Low-side N-channel MOSFET driver outputs. GND referenced drivers.", 20 LL1 (power) "Switch node connections for high-side drivers, current limit and control circuitry.", 21 DRVH1 (out) "High-side N-channel MOSFET driver outputs. LL referenced drivers.", 22 VBST1 (power) "Supply input for high-side N-channel MOSFET driver (boost terminal).", 23 PGOOD (oc) "Power Good window comparator output for channel 1 and 2. (Logical AND)", 24 VO1 (io) "Output connection to SMPS. These terminals work as fixed voltage inputs and output discharge inputs. VO1 and VO2 also work as 5 V and 3.3 V switch over return power input respectively.", 25 EP (power) "THERMAL PAD"

## TPS51125ARGET
designator U?
Dual-Synchronous, Step-Down Controller with Out-of-Audio Operation and 100-mA LDOs, 93 % Duty Cycle, 5.5 to 28 V, -40 to 85 degC, 24-pin VQFN (RGE), Green (RoHS & no Sb/Br); Manufacturer: Texas Instruments; PartNumber: TPS51125ARGET; Duty Cycle(Max)(%): 93; Iout(Max)(A): 20; Regulated Outputs(#): 2; SubFamily: Multiple-Output Switching Controller; Switching Frequency(Max)(kHz): 460; Synchronous Rectification: TRUE; Topology: Buck, D-CAP Mode"; Vin(Max)(V): 28; Vin(Min)(V): 5.5; DatasheetVersion: SLUS976F; PackageVersion: revG, Jul-2011; PackageReference: RGE24-2450X2450TP; PackageDescription: 24-Pin Plastic Quad Flatpack No-Lead, 4 x 4 mm Body, 0.5 mm Pitch; Supplier 1: Digi-Key; Supplier Part Number 1: TPS51125ARGET-ND; Supplier 2: Newark; Supplier Part Number 2: 64R0748; Supplier 3: Mouser; Supplier Part Number 3: 595-TPS51125ARGET; Eco-Plan: Green (RoHS & no Sb/Br); Iout2(A): 20; Vout(Max)(V): 5.5; Vout(Min)(V): 2; Vout2(Max)(V): 5.5; Vout2(Min)(V): 2; Mounting Technology: Surface Mount; Code_JEDEC: MO-220; ComponentLink1Description: Datasheet; ComponentLink1URL: http://www.ti.com/general/docs/lit/getliterature.tsp?genericPartNumber=TPS51125A&fileType=pdf; ComponentLink2Description: Package Specification; ComponentLink2URL: http://www.ti.com/litv/pdf/mpqf124f
footprint RGE24-2450X2450TP (QFN, 24-Leads, Body 4x4mm, Pitch 0.5mm, Thermal Pad 2.45x2.45mm, TI Recommended)
pins: 1 ENTRIP1 (in) "Channel 1 and Channel 2 enable and OCL trip setting pins.Connect resistor from this pin to GND to set threshold for synchronous RDS(on) sense. Short to ground to shutdown a switcher channel.", 2 VFB1 (in) "SMPS feedback inputs. Connect with feedback resistor divider.", 3 VREF (out) "2-V reference voltage output. Connect 220-nF to 1-uF, high-quality X5R or X7R ceramic capacitor to Signal GND near the device.", 4 TONSEL (in) "On-time adjustment pin.365 kHz/460 kHz setting : connect to VREG5 300 kHz/375 kHz setting : connect to VREG3 245 kHz/305 kHz setting : connect to VREF 200 kHz/250 kHz setting : connect to GND", 5 VFB2 (in) "SMPS feedback inputs. Connect with feedback resistor divider.", 6 ENTRIP2 (in) "Channel 1 and Channel 2 enable and OCL trip setting pins.Connect resistor from this pin to GND to set threshold for synchronous RDS(on) sense. Short to ground to shutdown a switcher channel.", 7 VO2 (io) "Output connection to SMPS. These terminals work as fixed voltage inputs and output discharge inputs. VO1 and VO2 also work as 5 V and 3.3 V switch over return power input respectively.", 8 VREG3 (power) "3.3-V power supply output. Connect 10-uF or larger, high-quality X5R or X7R ceramic capacitor", 9 VBST2 (power) "Supply input for high-side N-channel MOSFET driver (boost terminal).", 10 DRVH2 (out) "High-side N-channel MOSFET driver outputs. LL referenced drivers.", 11 LL2 (power) "Switch node connections for high-side drivers, current limit and control circuitry.", 12 DRVL2 (out) "Low-side N-channel MOSFET driver outputs. GND referenced drivers.", 13 EN0 (in) "Master enable input. Open : LDOs on, and ready to turn on VCLK and switcher channels. 620 k ohm to GND : enable both LDOs, VCLK off and ready to turn on switcher channels. Power consumption is almost the same as the case of (See Datasheet)", 14 SKIPSEL (in) "Selection pin for operation mode:  ; OOA auto skip : Connect to VREG3 or VREG5 ; Auto skip : Connect to VREF ;  PWM only : Connect to GND ;", 15 GND (power) "Ground.", 16 VIN (power) "High voltage power supply input for 5-V/3.3-V LDO.", 17 VREG5 (power) "5-V power supply output. Connect 10-uF or larger, high-quality X5R or X7R ceramic capacitor to Power GND near the device.", 18 VCLK (out) "270-kHz clock output for 15-V charge pump.", 19 DRVL1 (out) "Low-side N-channel MOSFET driver outputs. GND referenced drivers.", 20 LL1 (power) "Switch node connections for high-side drivers, current limit and control circuitry.", 21 DRVH1 (out) "High-side N-channel MOSFET driver outputs. LL referenced drivers.", 22 VBST1 (power) "Supply input for high-side N-channel MOSFET driver (boost terminal).", 23 PGOOD (oc) "Power Good window comparator output for channel 1 and 2. (Logical AND)", 24 VO1 (io) "Output connection to SMPS. These terminals work as fixed voltage inputs and output discharge inputs. VO1 and VO2 also work as 5 V and 3.3 V switch over return power input respectively.", 25 EP (power) "THERMAL PAD"

## TPS51163DRCR
designator U?
4.5 to 13.2 V Synchronous Buck Controller with High Current Gate Driver, 600 kHz, 69 % Duty Cycle, 4.5 to 13.2 V, -40 to 85 degC, 10-pin SON (DRC), Green (RoHS & no Sb/Br); Manufacturer: Texas Instruments; PartNumber: TPS51163DRCR; Duty Cycle(Max)(%): 69; Regulated Outputs(#): 1; SubFamily: Step-Down Controller; Switching Frequency(Max)(kHz): 600; Synchronous Rectification: TRUE; Vin(Max)(V): 13.2; Vin(Min)(V): 4.5; DatasheetVersion: SLUS864; PackageVersion: revL, Sep-2011; PackageReference: DRC10-2400X1650TP; PackageDescription: 10-Pin Plastic Small Outline No-Lead, 3 x 3 x 1 mm Body, 0.5 mm Pitch, Exposed Pad; Supplier 1: Digi-Key; Supplier Part Number 1: TPS51163DRCR-ND; Supplier 2: Newark; Supplier Part Number 2: 25R0096; Supplier 3: Mouser; Supplier Part Number 3: 595-TPS51163DRCR; Eco-Plan: Green (RoHS & no Sb/Br); Topology: Buck; Mounting Technology: Surface Mount; ComponentLink1Description: Datasheet; ComponentLink1URL: http://www.ti.com/general/docs/lit/getliterature.tsp?genericPartNumber=TPS51163&fileType=pdf; ComponentLink2Description: Package Specification; ComponentLink2URL: http://www.ti.com/litv/pdf/mpds117k
footprint DRC10-2400X1650TP (SON, 10-Leads, Body 3x3mm, Pitch 0.5mm, Thermal Pad 2.4x1.65mm, TI Recommended)
pins: 1 BOOT (power) "Gate drive voltage for the high-side N-channel MOSFET. Typically, a 100 nF capacitor must be connected between this pin and SW. Also, a diode from VDD to BOOT should be externally provided.", 2 SW (power) "Sense line for the adaptive anti-cross conduction circuitry. Serves as common connection for the flying high-side FET driver.", 3 HDRV (out) "Gate drive output for the high-side N-channel MOSFET.", 4 LDRV_OC (out) "Gate drive output for the low-side or rectifier MOSFET. The set point is read during start up calibration with the 10 uA current source present.", 5 GND (power) "Common reference for the device", 6 VDD (power) "Power input to the controller, 4.5 V to 13.2 V.", 7 COMP_EN (io) "Output of the error amplifier and the shutdown pin. Pulling the voltage on this pin lower than 800 mV shuts the controller down.", 8 FB (in) "Inverting input to the error amplifier. In normal operation, the voltage on this pin is equal to the internal reference voltage of 800mV.", 9 VOS (in) "Input to set undervoltage and overvoltage protections. Undervoltage protection occurs when VOS voltage is lower than 600mV. The controller shuts down with both MOSFETs latched off. Overvoltage protection occurs when VOS (See Datasheet)", 10 PGOOD (oc) "Open drain power good output. An external pull-up resistor is required.", 11 EP (power)